# EAGLE library part DAC70501MDGST (library dac70501)
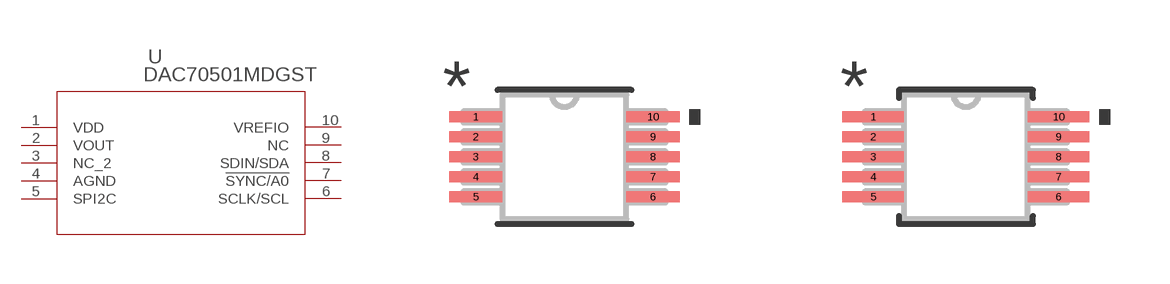
[diagram p0: symbol with the pads of DGS10_TEX; footprints DGS10_TEX, DGS10_TEX-M]

Designator prefix U

## DAC70501MDGSTDGS10_TEX (Copyright: Copyright (C) 2023 Ultra Librarian. All rights reserved.; Manufacturer_Part_Number: DAC70501MDGST; Mfr_Name: Texas Instruments)  [DGS10_TEX]
1  VDD  pwr
2  VOUT  out
3  NC_2  nc
4  AGND  pas
5  SPI2C  pas
6  SCLK/SCL  pas
7  !SYNC/A0  pas
8  SDIN/SDA  pas
9  NC  nc
10  VREFIO  pwr

## DAC70501MDGSTDGS10_TEX-M (Copyright: Copyright (C) 2023 Ultra Librarian. All rights reserved.; Manufacturer_Part_Number: DAC70501MDGST; Mfr_Name: Texas Instruments)  [DGS10_TEX-M]
Pads as for DGS10_TEX

## DAC70501MDGSTDGS10_TEX-L (Copyright: Copyright (C) 2023 Ultra Librarian. All rights reserved.; Manufacturer_Part_Number: DAC70501MDGST; Mfr_Name: Texas Instruments)  [DGS10_TEX-L]
Pads as for DGS10_TEX

## Footprint DGS10_TEX (pad centres in mm)
smd 1.333 x 0.279: 1 -2.216,1; 2 -2.216,0.5; 3 -2.216,0; 4 -2.216,-0.5; 5 -2.216,-1; 6 2.216,-1; 7 2.216,-0.5; 8 2.216,0; 9 2.216,0.5; 10 2.216,1

## Footprint DGS10_TEX-M (pad centres in mm)
smd 1.537 x 0.279: 1 -2.318,1; 2 -2.318,0.5; 3 -2.318,0; 4 -2.318,-0.5; 5 -2.318,-1; 6 2.318,-1; 7 2.318,-0.5; 8 2.318,0; 9 2.318,0.5; 10 2.318,1

## Footprint DGS10_TEX-L (pad centres in mm)
smd 1.118 x 0.229: 1 -2.121,1; 2 -2.121,0.5; 3 -2.121,0; 4 -2.121,-0.5; 5 -2.121,-1; 6 2.121,-1; 7 2.121,-0.5; 8 2.121,0; 9 2.121,0.5; 10 2.121,1